# Altium footprint library PCB_Lib.PcbLib: 8 footprints
Each footprint in its own frame and in the unit in brackets; x right, y up, seen from the top. Pads: shape width x height; smd on the part's side, far side on the other; paste and mask are expansions set on the pad; w line width, h text height; cw(c..) or ccw(c..) is an arc to the next point about the centre after c.
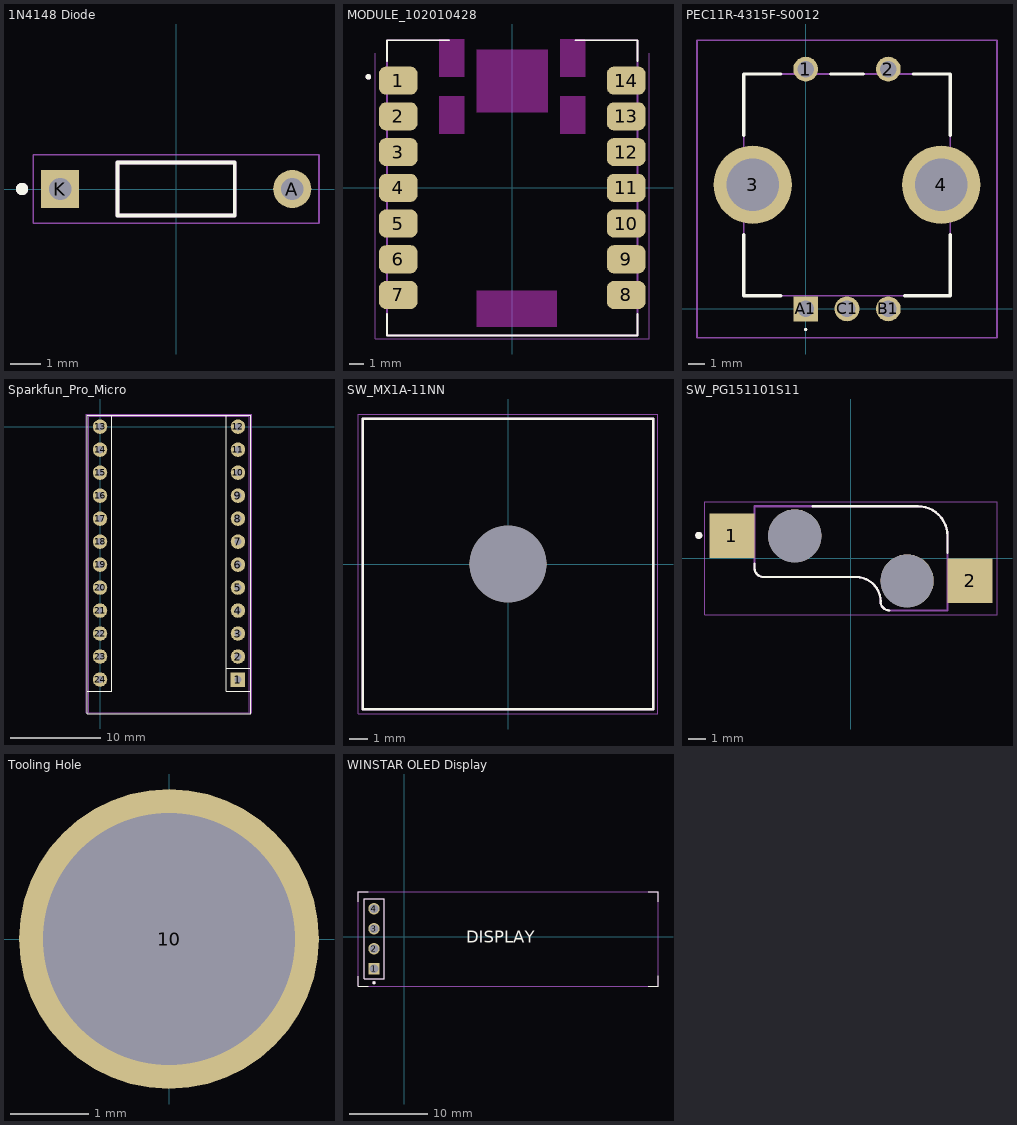
[diagram p0: the footprints below, top view; thin cyan lines are the x and y axes]

## 1N4148 Diode [mm]
height 1.91
pads (2):
  round 1.238 hole 0.73: A(3.768,0)
  rect 1.238x1.238 / inner round 1.238 / far side rect 1.238x1.238 hole 0.73: K(-3.768,0)
Top Overlay:
  circle w0.2: c-5,0 r0.1
  lines w0.127: -1.903,-0.86 1.903,-0.86 1.903,0.86 -1.903,0.86 -1.903,-0.86
Mechanical 13:
  circle w0.2: c-5,0 r0.1
  lines w0.127: -1.903,-0.86 1.903,-0.86 1.903,0.86 -1.903,0.86 -1.903,-0.86
Mechanical 15:
  lines w0.05: -4.637,-1.11 4.637,-1.11 4.637,1.11 -4.637,1.11 -4.637,-1.11
3D body "step_temp.STEP": height 1.91, standoff -22.92, extent -4.003,-0.955 4.003,0.955

## MODULE_102010428 [mm]
pads (14):
  rrect50% 2.75x2 smd: 1(-8.1,7.62) 2(-8.1,5.08) 3(-8.1,2.54) 4(-8.1,0) 5(-8.1,-2.54) 6(-8.1,-5.08) 7(-8.1,-7.62) 8(8.1,-7.62) 9(8.1,-5.08) 10(8.1,-2.54) 11(8.1,0) 12(8.1,2.54) 13(8.1,5.08) 14(8.1,7.62)
Top Overlay:
  circle w0.2: c-10.229,7.891 r0.1
  lines w0.127: -8.9,-8.97 -8.9,-10.5 8.9,-10.5 8.9,-8.97 ; -8.9,9 -8.9,10.5 -4.5,10.5 ; 4.5,10.5 8.9,10.5 8.9,9
Keep-Out Layer:
  region: 2.54,5.375 -2.54,5.375 -2.54,9.82 2.54,9.82
  region: 5.207,7.915 3.429,7.915 3.429,10.582 5.207,10.582
  region: 5.207,3.851 3.429,3.851 3.429,6.518 5.207,6.518
  region: -3.429,3.851 -5.207,3.851 -5.207,6.518 -3.429,6.518
  region: -3.429,7.915 -5.207,7.915 -5.207,10.582 -3.429,10.582
  region: 3.175,-9.865 -2.54,-9.865 -2.54,-7.325 3.175,-7.325
Mechanical 13:
  circle w0.2: c-10.229,7.891 r0.1
  lines w0.127: -4.5,10.5 -8.9,10.5 -8.9,-10.5 8.9,-10.5 8.9,10.5 4.5,10.5
Mechanical 15:
  lines w0.05: -9.725,9.57 -9.725,-10.75 9.725,-10.75 9.725,9.57
3D body "step_temp.STEP": height 4.41, standoff 0, extent -8.75,-10.5 8.75,11.5

## PEC11R-4315F-S0012 [mm]
pads (7):
  round 1.5 hole 1: 1(0,14.5) 2(5,14.5) B1(5,0) C1(2.5,0)
  round 4.74 hole 3.16: 3(-3.2,7.5) 4(8.2,7.5)
  rect 1.5x1.5 hole 1: A1(0,0)
Top Overlay:
  lines w0.1: 0,-1.3 cw(c0,-1.25) 0,-1.2 cw(c0,-1.25) 0,-1.3
  lines w0.2: -3.75,4.5 -3.75,0.8 -1.5,0.8 ; -3.75,10.5 -3.75,14.2 -1.5,14.2 ; 1.5,14.2 3.5,14.2 ; 6,0.8 8.75,0.8 8.75,4.5 ; 6.5,14.2 8.75,14.2 8.75,10.5
Mechanical 15:
  lines w0.1: -3.75,0.8 8.75,0.8 8.75,14.2 -3.75,14.2 -3.75,0.8
Mechanical 20:
  lines w0.1: -6.57,-1.75 11.57,-1.75 11.57,16.25 -6.57,16.25 -6.57,-1.75
3D body "PEC11L-4220F-S0015--3DModel-STEP-269445.STEP": height 24.5, standoff -3, extent -4.053,-0.127 9.144,14.623

## Sparkfun_Pro_Micro [mm]
pads (24):
  rect 1.6x1.6 hole 0.8: 1(15.24,-27.94)
  rrect100% 1.6x1.6 hole 0.8: 2(15.24,-25.4) 3(15.24,-22.86) 4(15.24,-20.32) 5(15.24,-17.78) 6(15.24,-15.24) 7(15.24,-12.7) 8(15.24,-10.16) 9(15.24,-7.62) 10(15.24,-5.08) 11(15.24,-2.54) 12(15.24,0) 13(0,0) 14(0,-2.54) 15(0,-5.08) 16(0,-7.62) 17(0,-10.16) 18(0,-12.7) 19(0,-15.24) 20(0,-17.78) 21(0,-20.32) 22(0,-22.86) 23(0,-25.4) 24(0,-27.94)
Top Overlay:
  lines w0.12: -1.4,-29.21 1.27,-29.21 1.27,-1.27 1.27,1.27 ; 13.97,-26.67 16.64,-26.67 ; 16.637,1.27 1.27,1.27 ; 16.64,-29.21 13.97,-29.21 13.97,1.27 16.64,1.27 16.637,-31.75 11.557,-31.75 -1.397,-31.75 -1.397,1.27 1.27,1.27
Mechanical 4:
  lines w0.05: -1.524,-31.623 16.764,-31.623 16.764,1.397 -1.524,1.397 -1.524,-31.623
Mechanical 6:
  lines w0.1: -1.27,-31.623 -1.27,1.143 16.51,1.143 16.51,-31.623 -1.27,-31.623
3D body "ARDUINO PRO MICRO.STEP": height 8.16, standoff -5.14, extent -1.27,-33.32 16.51,1.27

## SW_MX1A-11NN [mil]
height 598.43
pads (1):
  round 161 hole 161 unplated: ""(0,0)
Top Overlay:
  lines w5: -305,-305 -305,305 305,305 305,-305 -305,-305
Mechanical 13:
  lines w5: -305,-305 -305,305 305,305 305,-305 -305,-305
Mechanical 15:
  lines w1.97: -314.84,-314.84 -314.84,314.84 314.84,314.84 314.84,-314.84 -314.84,-314.84
3D body "step_temp.STEP": height 600, standoff -130, extent -305,-318.78 305,318.78

## SW_PG151101S11 [mm]
height 1.95
pads (4):
  rect 2.55x2.5 smd: 1(-6.725,1.27) 2(6.725,-1.27)
  round 3 hole 3 unplated: ""(-3.175,1.27) ""(3.175,-1.27)
Top Overlay:
  circle w0.2: c-8.6,1.3 r0.1
  lines w0.127: -5.45,-0.3 -5.45,-0.555 ccw(c-4.95,-0.555) -4.95,-1.055 0.285,-1.055 cw(c0.285,-2.445) 1.675,-2.445 ccw(c2.175,-2.445) 2.175,-2.945 ; -2.175,2.945 3.775,2.945 cw(c3.775,1.27) 5.45,1.27 5.45,0.3
Mechanical 13:
  circle w0.2: c-8.6,1.3 r0.1
  lines w0.127: -5.45,-0.555 ccw(c-4.95,-0.555) -4.95,-1.055 0.285,-1.055 cw(c0.285,-2.445) 1.675,-2.445 ccw(c2.175,-2.445) 2.175,-2.945 5.45,-2.945 5.45,1.27 ccw(c3.775,1.27) 3.775,2.945 -5.45,2.945 -5.45,-0.555
Mechanical 15:
  lines w0.05: -8.25,-3.195 -8.25,3.195 8.25,3.195 8.25,-3.195 -8.25,-3.195
3D body "step_temp.STEP": height 1.85, standoff -1.25, extent -7.25,-2.945 7.25,2.945

## Tooling Hole [mm]
pads (1):
  round 3.81 hole 3.2: 10(0,0)

## WINSTAR OLED Display [mm] "WEA012832FWPP3N00000"
pads (4):
  rect 1.45x1.45 / inner round 1.45 / far side rect 1.45x1.45 hole 1.1: 1(-3.81,-4.064)
  round 1.45 hole 1.1: 2(-3.81,-1.524) 3(-3.81,1.016) 4(-3.81,3.556)
Top Overlay:
  circle w0.2: c-3.81,-5.842 r0.1
  lines w0.127: -5.842,4.445 -5.842,5.715 -4.572,5.715 ; -5.84,-6.279 -5.84,-5.009 ; -5.838,-6.285 -4.568,-6.285 ; 30.988,-6.292 32.258,-6.292 32.258,-4.953 ; 30.988,5.715 32.258,5.715 32.258,4.445 ; -5.08,-5.334 -2.54,-5.334 -2.54,4.826 -5.08,4.826 -5.08,-5.334
  text "DISPLAY" at 7.874,-0.762 h1.52
Mechanical 13:
  circle w0.2: c-3.81,-5.842 r0.1
  lines w0.127: -5.08,-5.334 -5.08,4.826 -2.54,4.826 -2.54,-5.334 -5.08,-5.334
Mechanical 15:
  lines w0.127: 32.182,-6.285 -5.842,-6.285 -5.842,5.715 32.182,5.715 ; 32.258,-6.285 32.258,5.715
3D body "step_temp.STEP": height 5.57, standoff -5.97, extent -5.08,-5.334 -2.54,4.826